# Altium footprint library ALL.PcbLib: 3 footprints
Each footprint in its own frame and in the unit in brackets; x right, y up, seen from the top. Pads: shape width x height; smd on the part's side, far side on the other; paste and mask are expansions set on the pad; w line width, h text height; cw(c..) or ccw(c..) is an arc to the next point about the centre after c.
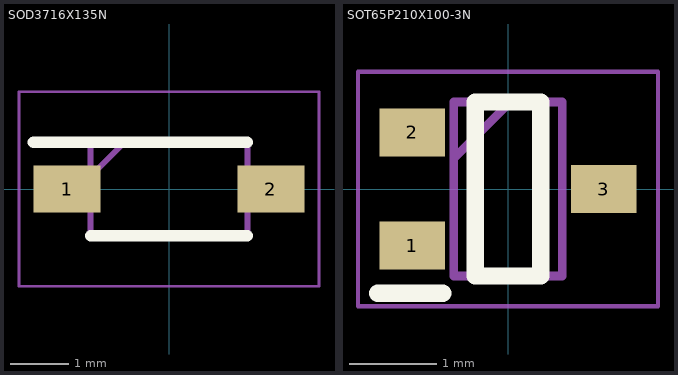
[diagram p0: the footprints below, top view; thin cyan lines are the x and y axes]

## PCBComponent_1 [mm]

## SOD3716X135N [mm]
pads (2):
  rect 1.15x0.8 smd: 1(-1.75,0) 2(1.75,0)
Top Overlay:
  lines w0.2: -2.325,0.8 1.345,0.8 ; -1.345,-0.8 1.345,-0.8
Mechanical 13:
  lines w0.1: -1.345,0.225 -0.77,0.8 ; -1.345,-0.8 -1.345,0.8 1.345,0.8 1.345,-0.8 -1.345,-0.8
Mechanical 15:
  lines w0.05: -2.575,-1.67 -2.575,1.67 2.575,1.67 2.575,-1.67 -2.575,-1.67
3D body "SZMMSZ4713T1G.stp": height 1.35, standoff 0, extent -1.855,-0.8 1.855,0.8

## SOT65P210X100-3N [mm]
pads (3):
  rect 0.75x0.55 smd: 1(-1.1,-0.65) 2(-1.1,0.65) 3(1.1,0)
Top Overlay:
  lines w0.2: -1.5,-1.2 -0.75,-1.2 ; -0.375,-1 -0.375,1 0.375,1 0.375,-1 -0.375,-1
Mechanical 13:
  lines w0.1: -0.625,0.35 0.025,1 ; -0.625,-1 -0.625,1 0.625,1 0.625,-1 -0.625,-1
Mechanical 15:
  lines w0.05: -1.725,-1.35 -1.725,1.35 1.725,1.35 1.725,-1.35 -1.725,-1.35
3D body "BSS214NW_H6327.stp": height 1, standoff 0, extent -1.05,-1 1.05,1